# EAGLE library part 66200621022 (library Wuerth_Elektronik_eiCan_08_Micro_Power_Connectors)
WR-MPC3 3.00mm Male Dual Row Angled Header with Plastic Pegs, 6 Pins
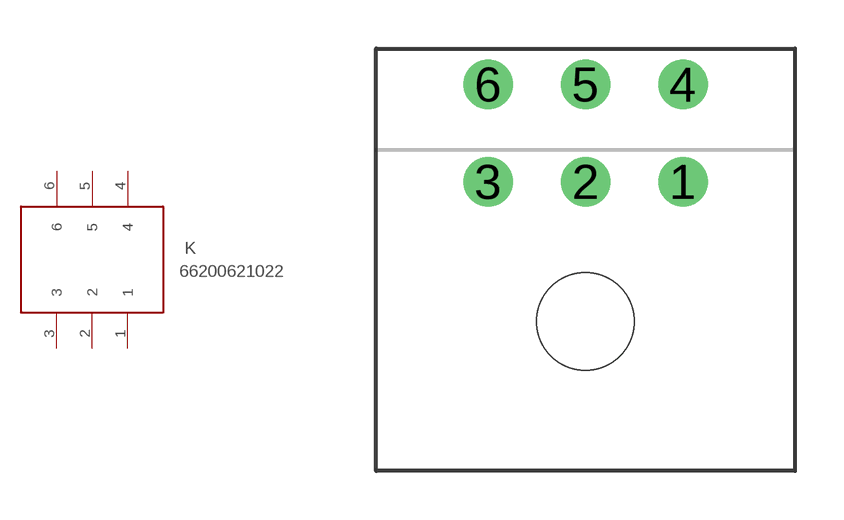
[diagram p30: symbol with the pads of 66200621022; footprint 66200621022]

Designator prefix K

## 66200621022  [66200621022]
1  1
2  2
3  3
4  4
5  5
6  6

## Footprint 66200621022 (pad centres in mm)
WR-MPC3 3.00mm Male Dual Row Angled Header with Plastic Pegs, 6 Pins
drill 1.02 round: 1 0,-1.5; 2 -3,-1.5; 3 -6,-1.5; 4 0,1.5; 5 -3,1.5; 6 -6,1.5
hole 3 at -3,-5.8